# EAGLE library part TP-1X8 (library pad)
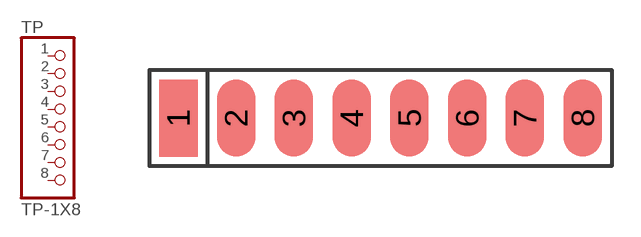
[diagram p0: symbol with the pads of 1X08; footprint 1X08]

Designator prefix TP

## TP-1X8  [1X08]
1  1  pas
2  2  pas
3  3  pas
4  4  pas
5  5  pas
6  6  pas
7  7  pas
8  8  pas

## Footprint 1X08 (pad centres in mm)
smd 2 x 4: 1 -10.5,0; 2 -7.5,0; 3 -4.5,0; 4 -1.5,0; 5 1.5,0; 6 4.5,0; 7 7.5,0; 8 10.5,0